# Altium schematic symbol library TPS54.SchLib: 1 symbol
Pins are listed as number, name and electrical type; pins without a type are passive.

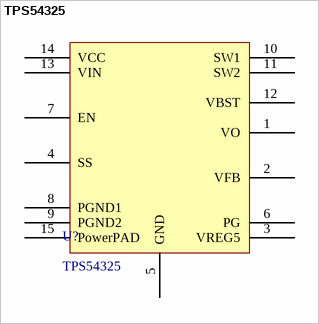
[diagram p0: symbol TPS54325]

## TPS54325
designator U?
Non Isolated DC-DC Buck Converter
footprint TPS54325 (Non Isolated DC-DC Buck Converter)
pins: 1 VO "On-Time Adjustment", 2 VFB "Converter feedback input", 3 VREG5 (power) "5.5 V power supply output", 4 SS "Soft-Start Control", 5 GND (power) "Soft-Start Control", 6 PG (oc) "Open Drain Power Good Output", 7 EN "Enable control input", 8 PGND1 (power) "Ground returns for low-side MOSFET", 9 PGND2 (power) "Ground returns for low-side MOSFET", 10 SW1 "Switch node connection between high-side NFET and low-side NFET", 11 SW2 "Switch node connection between high-side NFET and low-side NFET", 12 VBST "Supply input for high-side NFET gate driver", 13 VIN (power) "Power Input", 14 VCC (power) "Supply input for 5 V internal linear regulator", 15 PowerPAD (power) "Thermal pad of the package"